# Altium schematic symbol library IO (Power-USB-Serial-VGA-RJ-Audio-Buzzer).SchLib: 17 symbols
Pins are listed as number, name and electrical type; pins without a type are passive.

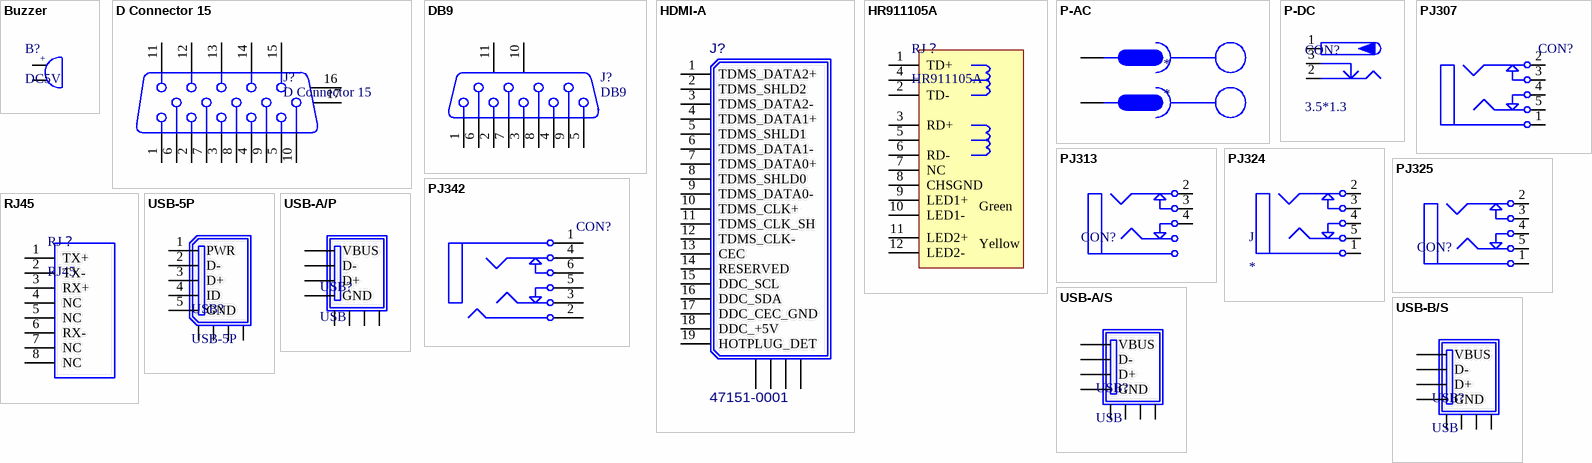
[diagram p0: symbols Buzzer to USB-B/S]

## Buzzer
designator B?, comment DC5V
Active Piezo Electronic Buzzer Beep; BOM名称: 蜂鸣器; 版权归属: 源创客; 学习资源: www.ooocke.com
footprint Buzzer 6.5x12x6 (6.5*12*6mm)
footprint Buzzer 5x9x5.5 (5*9*5.5mm)
footprint Buzzer 6.5x12x8.5 (6.5*12*8.5mm)
footprint Buzzer 7.6X12X7.5 (6.5*12*7.5mm)
footprint Buzzer 7.6X12X9.5 (6.5*12*9.5mm)
pins: A, K
text: +

## D Connector 15
designator J?
VGA communication port; 版权归属: 源创客; BOM名称: VGA通讯端口; 学习资源: www.ooocke.com
footprint VGA15b (15针通讯接口)
footprint VGA15A (15针通讯接口)
pins: 1, 2, 3, 4, 5, 6, 7, 8, 9, 10, 11, 12, 13, 14, 15, 16 MH2, 17 MH1

## DB9
designator J?
9-pin serial port; BOM名称: 9针串口; 版权归属: 源创客; 学习资源: www.ooocke.com
footprint DB9/S_A (9针母头串口,31*18.5*12.5mm)
footprint DB9/P_A (9针公头串口,31*18.5*12.5mm)
pins: 1, 2, 3, 4, 5, 6, 7, 8, 9, 10 MH1, 11 MH2

## HDMI-A
designator J?, comment 47151-0001
CONNECTOR, HDMI TYPE A, R/A, SMD; Manufacturer: MOLEX; Part Number: 47151-0001
footprint HDMI-A
pins: 1 TDMS_DATA2+, 2 TDMS_SHLD2, 3 TDMS_DATA2-, 4 TDMS_DATA1+, 5 TDMS_SHLD1, 6 TDMS_DATA1-, 7 TDMS_DATA0+, 8 TDMS_SHLD0, 9 TDMS_DATA0-, 10 TDMS_CLK+, 11 TDMS_CLK_SH, 12 TDMS_CLK-, 13 CEC, 14 RESERVED, 15 DDC_SCL, 16 DDC_SDA, 17 DDC_CEC_GND, 18 DDC_+5V, 19 HOTPLUG_DET, 20 SHIELD, 21 SHIELD, 22 SHIELD, 23 SHIELD

## HR911105A
designator RJ？
Illuminated Ethernet interface; BOM名称: 带灯以太网接口; 版权归属: 源创客; 学习资源: www.ooocke.com
footprint RJ-45A12 (网线接口)
pins: 1 TD+, 2 TD-, 3 RD+, 4, 5, 6 RD-, 7 NC, 8 CHSGND, 9 LED1+, 10 LED1-, 11 LED2+, 12 LED2-
text: Green; Yellow

## P-AC
designator *
High voltage power interface
footprint AC-001 (IEC C8 Connector)
pins: 1, 2

## P-DC
designator CON?, comment 3.5*1.3
Low voltage power interface; BOM名称: DC电源接口; 版权归属: 源创客; 学习资源: www.ooocke.com
footprint DC-012 (5.5*2.1)
footprint DC-005 (5.5*2.1mm，DC30V,2.5A)
footprint DC-002 (3.5*1.1mm,)
footprint DC-003 (3.5*1.1mm)
footprint DC-003A (3.5*1.1mm)
footprint DC-050 (5.5*2.1)
pins: 1 (power), 2 (power), 3 (power)

## PJ307
designator CON?  (value not drawn)
3.5mm headphone jack; BOM名称: 耳机插座; 版权归属: 源创客; 学习资源: www.ooocke.com
footprint PJ307_BK (14.2*12*5mm)
footprint PJ307_G (14.2*12*5mm)
footprint PJ307_PK (14.2*12*5mm)
pins: 1, 2, 3, 4, 5

## PJ313
designator CON?, comment PJ325_BK  (value not drawn)
3.5mm headphone jack; BOM名称: 耳机插座; 版权归属: 源创客; 学习资源: www.ooocke.com
footprint PJ313A
footprint PJ313D
pins: 2, 3, 4

## PJ324
designator J
Headphone Stereo jack/Audio connector; MF: Wenzhou QingPu Electronics Co.Ltd; MP: PJ324M; Availability: Unavailable; Package: Package Analog Devices; Price: None; SnapEDA_Link: https://www.snapeda.com/parts/PJ324M/Wenzhou%20QingPu%20Electronics%20Co.Ltd/view-part/3664803/?ref=snap; Value: *
footprint PJ-324 (Footprint not found)
pins: 1, 2, 3, 4, 5

## PJ325
designator CON?, comment PJ325_BK  (value not drawn)
3.5mm headphone jack; BOM名称: 耳机插座; 版权归属: 源创客; 学习资源: www.ooocke.com
footprint PJ325_BK (黑色，18*8.1*12.3mm)
footprint PJ325_YE (黄色，18*8.1*12.3mm)
footprint PJ325_G (绿色，18*8.1*12.3mm)
footprint PJ325_B (蓝色，18*8.1*12.3mm)
footprint PJ325_PK (粉色，18*8.1*12.3mm)
pins: 1, 2, 3, 4, 5

## PJ342
designator CON?  (value not drawn)
3.5 headphone jack, 4Pin; BOM名称: 耳机插座; 版权归属: 源创客; 学习资源: www.ooocke.com
footprint PJ342A (有头)
footprint PJ342B (沉板式，无头)
pins: 1, 2, 3, 4, 5, 6

## RJ45
designator RJ？
Ethernet interface; BOM名称: 以太网接口; 版权归属: 源创客; 学习资源: www.ooocke.com
footprint RJ45-2 (网线接口)
footprint RJ45_180 (网线接口)
pins: 1 TX+, 2 TX-, 3 RX+, 4 NC, 5 NC, 6 RX-, 7 NC, 8 NC

## USB-5P
designator USB?
Micro & Mini USB female; BOM名称: 微型USB母座; 版权归属: 源创客; 学习资源: www.ooocke.com
footprint USB-Micro_A (micro��USB ��5.9*8.2*2.5mm)
footprint USB-Mini_A (Footprint not found)
footprint USB-Micro_B/4legs (micro��USB ��5.7*7.8*2.5mm)
footprint USB-MICRO_B-3.0
footprint USB-micro_B (micro��USB ��5.7*7.8*2.5mm)
pins: 1 PWR (power), 2 D- (hiz), 3 D+ (hiz), 4 ID, 5 SHIELD, 5 SHIELD, 5 SHIELD, 5 SHIELD, 5 GND (power)

## USB-A/P
designator USB?, comment USB
USB-A type male interface; BOM名称: USB-A型公接口; 版权归属: 源创客; 学习资源: www.ooocke.com
footprint USB_A/P_A (A型USB 插头，20*13*4.5mm)
footprint USB_A/P_A (A型USB 插头，20*13*4.5mm)
pins: D+ (hiz), D- (hiz), G GND, S SHIELD, S SHIELD, S SHIELD, S SHIELD, V VBUS (power)

## USB-A/S
designator USB?, comment USB
USB-A type female interface; BOM名称: USB-A型母接口; 版权归属: 源创客; 学习资源: www.ooocke.com
footprint USB-A/S_B (A型贴片母头，)
footprint USB-A/S_A (A型直插母头，)
footprint USB-A/S_C (A型贴片母头，)
footprint USB-A/S_D (A型直插母头，)
footprint USB-A/S_E (A型直插母头，)
pins: D+ (hiz), D- (hiz), G GND, S SHIELD, S SHIELD, S SHIELD, S SHIELD, V VBUS (power)

## USB-B/S
designator USB?, comment USB
USB-B type female interface; BOM名称: USB-B型母接口; 版权归属: 源创客; 学习资源: www.ooocke.com
footprint USB-B/S_A (b型USB 母座 16.3*13.7*11mm)
pins: D+ (hiz), D- (hiz), G GND, S SHIELD, S SHIELD, S SHIELD, S SHIELD, V VBUS (power)